# EAGLE library part 690357281276 (library Wurth_Elektronik_Electromechanic_Board_to_Board_Connectors_rev16a)
WR-MM Male SMT Connector without Latch and without Polarization, 12 pins=>Code : Con_BTB_MM_SMT_690357281276 <http://katalog.we-online.de/media/thumbs2/eican/thb_Con_BTB_MM_SMT_69035728xx76_pf2.jpg> Details see: http://katalog.we-online.de/en/em/6903_5728_xx_76 Created 2014-06-04, Karrer Zheng 2014 (C) Würth Elektronik
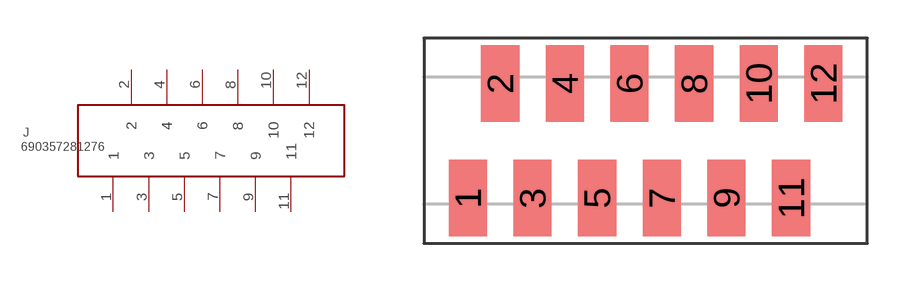
[diagram p335: symbol with the pads of 690357281276; footprint 690357281276]

Designator prefix J

## 690357281276  [690357281276]
1  1  pas
2  2  pas
3  3  pas
4  4  pas
5  5  pas
6  6  pas
7  7  pas
8  8  pas
9  9  pas
10  10  pas
11  11  pas
12  12  pas

## Footprint 690357281276 (pad centres in mm)
WR-MM Male SMT Connector without Latch and without Polarization, 12 pins
smd 1.5 x 3: 1 -5.08,-2.25; 2 -3.81,2.25; 3 -2.54,-2.25; 4 -1.27,2.25; 5 0,-2.25; 6 1.27,2.25; 7 2.54,-2.25; 8 3.81,2.25; 9 5.08,-2.25; 10 6.35,2.25; 11 7.62,-2.25; 12 8.89,2.25